# Altium footprint library OMRON_B3U-1000P_Switch.PcbLib: 1 footprints
Each footprint in its own frame and in the unit in brackets; x right, y up, seen from the top. Pads: shape width x height; smd on the part's side, far side on the other; paste and mask are expansions set on the pad; w line width, h text height; cw(c..) or ccw(c..) is an arc to the next point about the centre after c.
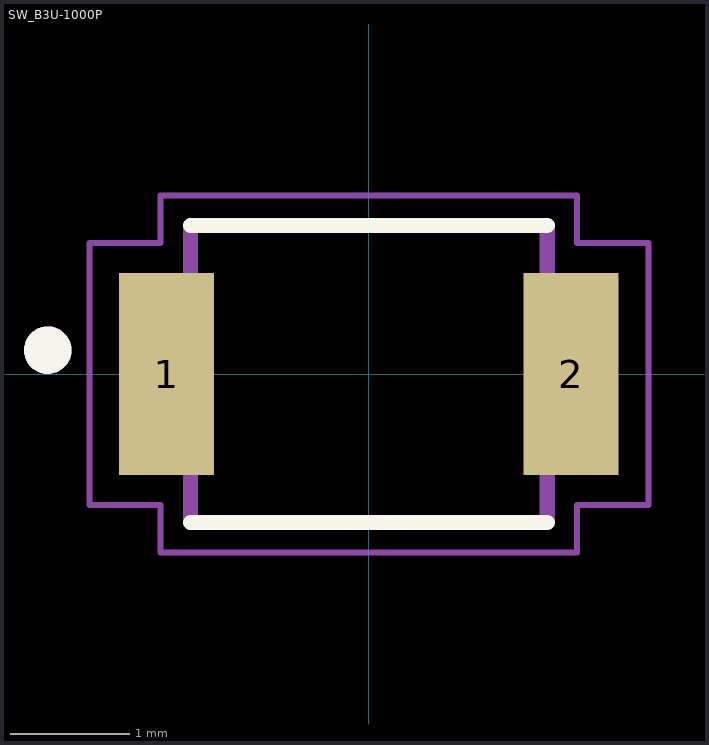
[diagram p0: the footprint, top view; thin cyan lines are the x and y axes]

## SW_B3U-1000P [mm]
pads (2):
  rect 0.8x1.7 smd: 1(-1.7,0) 2(1.7,0)
Top Overlay:
  circle w0.2: c-2.7,0.2 r0.1
  lines w0.127: -1.5,-1.25 1.5,-1.25 ; -1.5,1.25 1.5,1.25
Mechanical 13:
  circle w0.2: c-2.7,0.2 r0.1
  lines w0.127: -1.5,-1.25 1.5,-1.25 1.5,1.25 -1.5,1.25 -1.5,-1.25
Mechanical 15:
  lines w0.05: -2.35,-1.1 -2.35,1.1 -1.75,1.1 -1.75,1.5 1.75,1.5 1.75,1.1 2.35,1.1 2.35,-1.1 1.75,-1.1 1.75,-1.5 -1.75,-1.5 -1.75,-1.1 -2.35,-1.1
3D body "B3U-1000P--3DModel-STEP-56544.STEP": height 1.75, standoff 0, extent -2,-1.25 2,1.25